# Altium schematic symbol library arduino_mega_pro.SchLib: 1 symbol
Pins are listed as number, name and electrical type; pins without a type are passive.

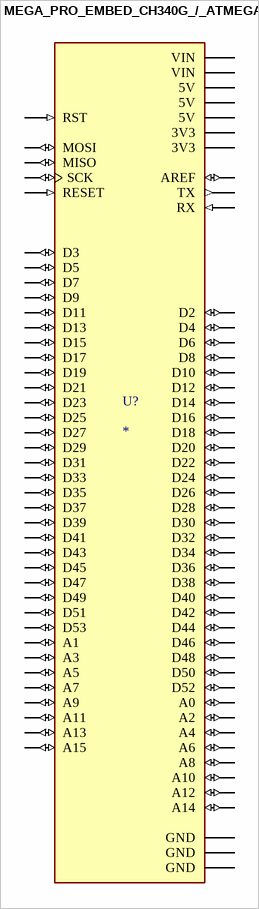
[diagram p0: symbol MEGA_PRO_EMBED_CH340G_/_ATMEGA2560]

## MEGA_PRO_EMBED_CH340G_/_ATMEGA2560
designator U?
Mega 2560 PRO (Embed) CH340G/ATmega2560-16AU; MP: MEGA_PRO_EMBED_CH340G_/_ATMEGA2560; Price: None; Value: *; Package: None; Availability: Unavailable
footprint arduino_mega_pro
pins: 3V3_1 3V3 (power), 3V3_2 3V3 (power), 5V_1 5V (power), 5V_2 5V (power), 5V_3 5V (power), A0 (io), A1 (io), A2 (io), A3 (io), A4 (io), A5 (io), A6 (io), A7 (io), A8 (io), A9 (io), A10 (io), A11 (io), A12 (io), A13 (io), A14 (io), A15 (io), AREF (io), D2 (io), D3 (io), D4 (io), D5 (io), D6 (io), D7 (io), D8 (io), D9 (io), D10 (io), D11 (io), D12 (io), D13 (io), D14 (io), D15 (io), D16 (io), D17 (io), D18 (io), D19 (io), D20 (io), D21 (io), D22 (io), D23 (io), D24 (io), D25 (io), D26 (io), D27 (io), D28 (io), D29 (io), D30 (io), D31 (io), D32 (io), D33 (io), D34 (io), D35 (io), D36 (io), D37 (io), D38 (io), D39 (io), D40 (io), D41 (io), D42 (io), D43 (io), D44 (io), D45 (io), D46 (io), D47 (io), D48 (io), D49 (io), D50 (io), D51 (io), D52 (io), D53 (io), GND_1 GND (power), GND_2 GND (power), GND_3 GND (power), MISO (io), MOSI (io), RESET (in), RST (in), RX (in), SCK (io), TX (out), VIN_1 VIN (power), VIN_2 VIN (power)